# Altium integrated library Samtec_Custom.IntLib: 7 symbols
Pins are listed as number, name and electrical type; pins without a type are passive.

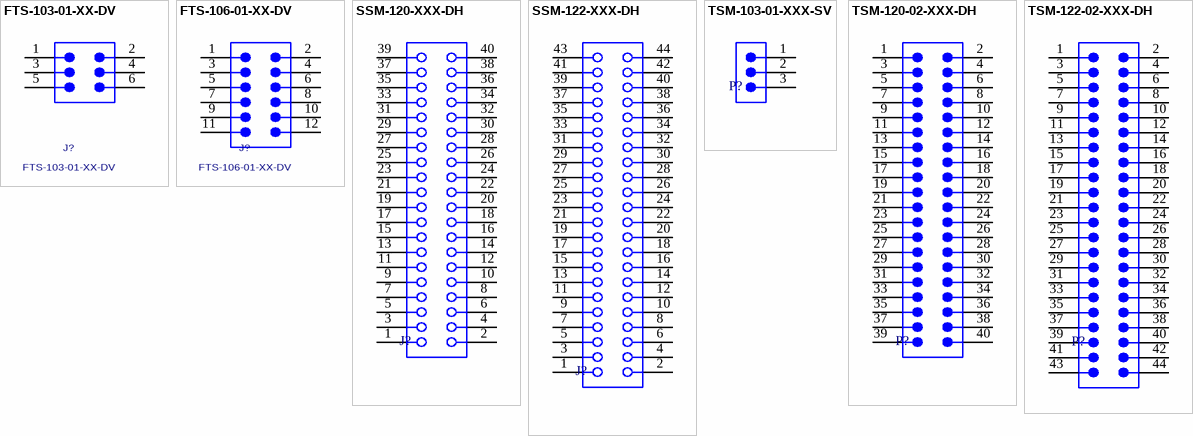
[diagram p0: symbols FTS-103-01-XX-DV to TSM-122-02-XXX-DH]

## FTS-103-01-XX-DV
designator J?
0.050 inch, double vertical, low-profile terminal strip; MANUFACTURER: SAMTEC; PCB DECAL: FTS-103-XX-XX-DV; CREATED BY: June 30, 2016 - Wendy Xin
footprint FTS-103-01-XX-DV
pins: 1, 2, 3, 4, 5, 6

## FTS-106-01-XX-DV
designator J?
0.050 inch, double vertical, low-profile terminal strip; MANUFACTURER: SAMTEC; PCB DECAL: FTS-103-XX-XX-DV; CREATED BY: June 30, 2016 - Wendy Xin
footprint FTS-106-01-XX-DV
pins: 1, 2, 3, 4, 5, 6, 7, 8, 9, 10, 11, 12

## SSM-120-XXX-DH
designator J?
Tiger Claw(TM) Surface Mount Socket, Horizontal, -55 to 125 degC, 2.54 mm Pitch, 40-Pin, Female, RoHS; Manufacturer: Samtec
footprint SMTC-SSM-120-XXX-DH (C.L. Surface Mount Socket Strip, 2x20 Pins, Horizontal, 2.54 mm Pitch, Female)
pins: 1, 2, 3, 4, 5, 6, 7, 8, 9, 10, 11, 12, 13, 14, 15, 16, 17, 18, 19, 20, 21, 22, 23, 24, 25, 26, 27, 28, 29, 30, 31, 32, 33, 34, 35, 36, 37, 38, 39, 40

## SSM-122-XXX-DH
designator J?
Tiger Claw(TM) Surface Mount Socket, Horizontal, -55 to 125 degC, 2.54 mm Pitch, 44-Pin, Female, RoHS; Manufacturer: Samtec
footprint SMTC-SSM-122-XXX-DH (C.L. Surface Mount Socket Strip, 2x22 Pins, Horizontal, 2.54 mm Pitch, Female)
pins: 1, 2, 3, 4, 5, 6, 7, 8, 9, 10, 11, 12, 13, 14, 15, 16, 17, 18, 19, 20, 21, 22, 23, 24, 25, 26, 27, 28, 29, 30, 31, 32, 33, 34, 35, 36, 37, 38, 39, 40, 41, 42, 43, 44

## TSM-103-01-XXX-SV
designator P?
0.025" SQ Post Header, Surface Mount, Vertical, -55 to 125 degC, 2.54 mm Pitch, 3-Pin, Male, RoHS; Manufacturer: Samtec; ComponentLink1Description: Manufacturer URL; ComponentLink1URL: http://www.samtec.com; ComponentLink2Description: Datasheet; ComponentLink2URL: http://www.samtec.com/documents/webfiles/pdf/TSM.PDF; ComponentLink3Description: Package Specification; ComponentLink3URL: http://www.samtec.com/documents/webfiles/cpdf/TSM-1XX-XX-XXX-SV-XX-XXX-XX-MKT.pdf
footprint SMTC-TSM-103-01-XXX-SV (Single Row SMT Assembly, 3 Pins, Vertical, 2.54mm Pitch, Male)
pins: 1, 2, 3

## TSM-120-02-XXX-DH
designator P?
0.025" SQ Post Header, Surface Mount, Horizontal, -55 to 125 degC, 2.54 mm Pitch, 40-Pin, Male, RoHS; Manufacturer: Samtec
footprint SMTC-TSM-120-02-XXX-DH (Terminal Strip Double Surface Mount, 2x20 Pins, Horizontal, 2.54mm Pitch, Male)
pins: 1, 2, 3, 4, 5, 6, 7, 8, 9, 10, 11, 12, 13, 14, 15, 16, 17, 18, 19, 20, 21, 22, 23, 24, 25, 26, 27, 28, 29, 30, 31, 32, 33, 34, 35, 36, 37, 38, 39, 40

## TSM-122-02-XXX-DH
designator P?
0.025" SQ Post Header, Surface Mount, Horizontal, -55 to 125 degC, 2.54 mm Pitch, 44-Pin, Male, RoHS; Manufacturer: Samtec
footprint SMTC-TSM-122-02-XXX-DH (Terminal Strip Double Surface Mount, 2x22 Pins, Horizontal, 2.54mm Pitch, Male)
pins: 1, 2, 3, 4, 5, 6, 7, 8, 9, 10, 11, 12, 13, 14, 15, 16, 17, 18, 19, 20, 21, 22, 23, 24, 25, 26, 27, 28, 29, 30, 31, 32, 33, 34, 35, 36, 37, 38, 39, 40, 41 39, 42 40, 43 39, 44 40